# Altium schematic symbol library 74HC595D.SchLib: 1 symbol
Pins are listed as number, name and electrical type; pins without a type are passive.

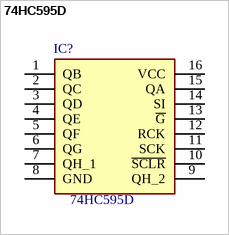
[diagram p0: symbol 74HC595D]

## 74HC595D
designator IC?
Shift Register Single 8-Bit Serial to Serial/Parallel 16-Pin SOIC T/R; Manufacturer_Name: Toshiba; Geometry.Height: 1.75mm; Mouser Part Number: 757-74HC595D; Mouser Price/Stock: https://www.mouser.co.uk/ProductDetail/Toshiba/74HC595D?qs=7EBvPakHacViJoQmXKcnew%3D%3D; Manufacturer_Part_Number: 74HC595D; Datasheet Link: https://toshiba.semicon-storage.com/info/docget.jsp?did=36768&prodName=74HC595D
footprint SOIC127P600X175-16N
pins: 1 QB, 2 QC, 3 QD, 4 QE, 5 QF, 6 QG, 7 QH_1, 8 GND, 9 QH_2, 10 ~{SCLR}, 11 SCK, 12 RCK, 13 ~{G}, 14 SI, 15 QA, 16 VCC